# Altium footprint library RAMBo.PcbLib: 56 footprints (part 2 of 4)
Each footprint in its own frame and in the unit in brackets; x right, y up, seen from the top. Pads: shape width x height; smd on the part's side, far side on the other; paste and mask are expansions set on the pad; w line width, h text height; cw(c..) or ccw(c..) is an arc to the next point about the centre after c.
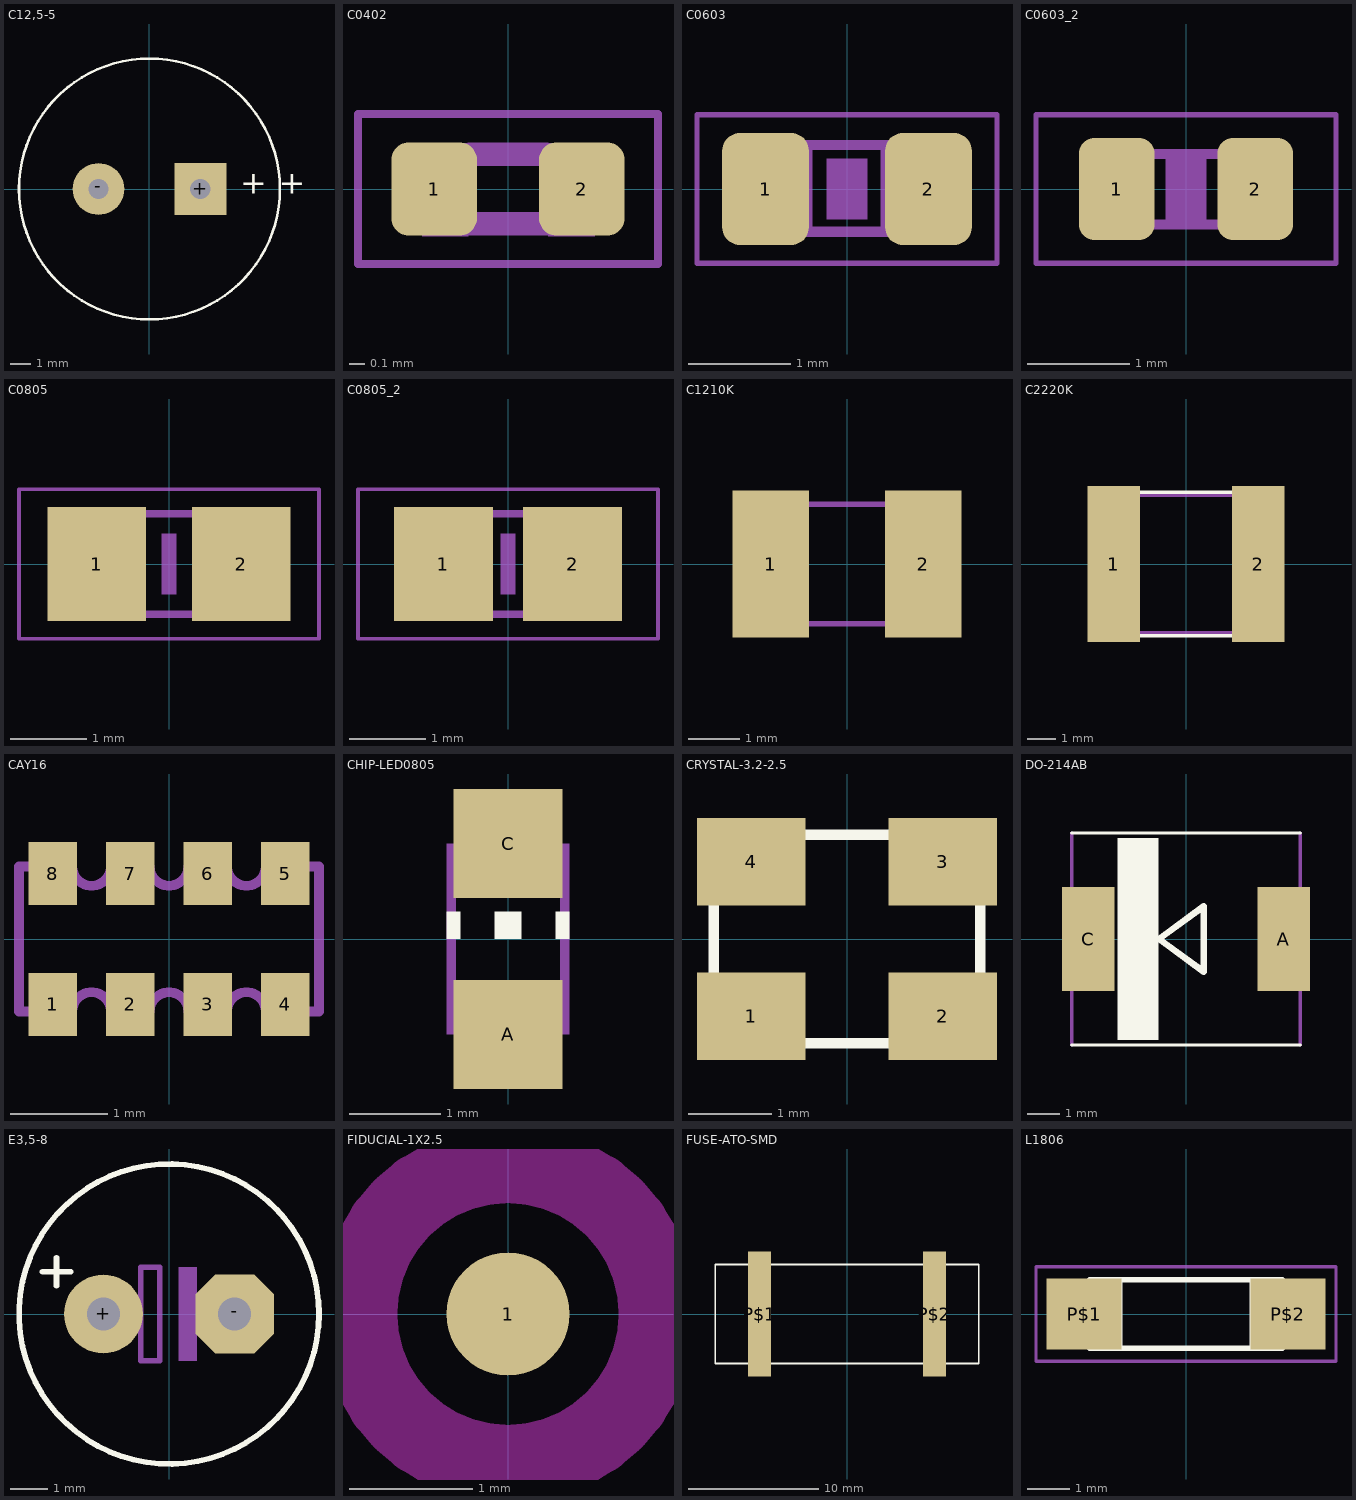
[diagram p1: the footprints below, top view; thin cyan lines are the x and y axes]

## C12,5-5 [mm] "C12,5-5"
pads (2):
  rect 2.54x2.54 hole 1: +(2.5,0)
  round 2.54 hole 1: -(-2.5,0)
Top Overlay:
  circle w0.127: c0,0 r6.4
  text "+" at 4.445,-0.635 h1.97
  text "+" at 6.35,-0.635 h1.97

## C0402 [mil] "C0402"
pads (2):
  rrect40% 21.65x23.62 smd: 1(-18.7,0) 2(18.7,0)
Mechanical 16:
  rectangle: 10.19,-12 22,11.62
  rectangle: -21.81,-12 -10,11.62
  lines w2: -37.99,-19.02 -37.99,19.02 37.99,19.02 37.99,-19.02 -37.99,-19.02
  lines w6: -9.65,-8.82 9.65,-8.82 ; -9.65,8.82 9.65,8.82

## C0603 [mil] "C0603"
pads (2):
  rrect40% 33.46x43.31 smd: 1(-31.5,0) 2(31.5,0)
Mechanical 6:
  rectangle: -7.87,-11.81 7.87,11.81
Mechanical 16:
  rectangle: 13,-18.5 32.69,18.9
  rectangle: -33,-18.5 -13.31,18.9
  lines w2: -57.99,-28.7 -57.99,28.7 57.99,28.7 57.99,-28.7 -57.99,-28.7
  lines w4: -14.02,-16.5 14.02,-16.5 ; -14.02,17.01 14.02,17.01

## C0603_2 [mm]
pads (2):
  rrect40% 0.74x1 smd: 1(-0.68,0) 2(0.68,0)
Mechanical 6:
  rectangle: -0.2,-0.3 0.2,0.3
Mechanical 16:
  rectangle: 0.45,-0.4 0.8,0.4
  rectangle: -0.8,-0.4 -0.45,0.4
  lines w0.051: -1.473,-0.729 -1.473,0.729 1.473,0.729 1.473,-0.729 -1.473,-0.729
  lines w0.102: -0.502,-0.349 0.737,-0.349 ; -0.489,0.343 0.483,0.343

## C0805 [mil] "C0805"
pads (2):
  rect 51.18x59.06 smd: 1(-37.4,0) 2(37.4,0)
Mechanical 6:
  rectangle: -3.94,-15.75 3.94,15.75
Mechanical 16:
  rectangle: 14,-28.5 43.53,28.59
  rectangle: -43,-28.5 -13.47,28.59
  lines w2: -77.68,-38.7 -77.68,38.7 77.68,38.7 77.68,-38.7 -77.68,-38.7
  lines w4: -15,25.98 15,25.98 ; -14.02,-25.98 15,-25.98

## C0805_2 [mil]
pads (2):
  rect 51.18x59.06 smd: 1(-33.46,0) 2(33.46,0)
Mechanical 6:
  rectangle: -3.94,-15.75 3.94,15.75
Mechanical 16:
  rectangle: 14,-28.5 43.53,28.59
  rectangle: -43,-28.5 -13.47,28.59
  lines w2: -77.68,-38.7 -77.68,38.7 77.68,38.7 77.68,-38.7 -77.68,-38.7
  lines w4: -15,25.98 15,25.98 ; -14.02,-25.98 15,-25.98

## C1210K [mil] "C1210K"
pads (2):
  rect 59.06x114.17 smd: 1(-59.06,0) 2(59.06,0)
Mechanical 16:
  rectangle: 43.31,-49.21 62.99,49.21
  rectangle: -62.99,-49.21 -43.31,49.21
  lines w4: -60.04,-46.26 60.04,-46.26 ; -60.04,46.26 60.04,46.26

## C2220K [mil] "C2220K"
pads (2):
  rect 72.83x216.54 smd: 1(-100.39,0) 2(100.39,0)
Top Overlay:
  lines w5: -125,-100 -125,100 125,100 125,-100 -125,-100
Mechanical 16:
  rectangle: 86.61,-98.43 110.24,98.43
  rectangle: -110.24,-98.43 -86.61,98.43
  lines w4: -107.28,-95.47 107.28,-95.47 ; -107.28,95.47 107.28,95.47

## CAY16 [mm] "CAY16"
pads (8):
  rect 0.5x0.65 smd: 1(-1.2,-0.675) 2(-0.4,-0.675) 3(0.4,-0.675) 4(1.2,-0.675) 5(1.2,0.675) 6(0.4,0.675) 7(-0.4,0.675) 8(-1.2,0.675)
Mechanical 16:
  lines w0.102: -1.55,-0.75 -1,-0.75 cw(c-0.8,-0.75) -0.6,-0.75 -0.2,-0.75 cw(c0,-0.75) 0.2,-0.75 0.6,-0.75 cw(c0.8,-0.75) 1,-0.75 1.55,-0.75 1.55,0.75 1,0.75 cw(c0.8,0.75) 0.6,0.75 0.2,0.75 cw(c0,0.75) -0.2,0.75 -0.6,0.75 cw(c-0.8,0.75) -1,0.75 -1.55,0.75 -1.55,-0.75

## CHIP-LED0805 [mil] "CHIP-LED0805"
pads (2):
  rect 47.24x47.24 smd: A(0,-41.34) C(0,41.34)
Top Overlay:
  rectangle: -5.91,0 5.91,11.81
  rectangle: 20.67,0 26.57,11.81
  rectangle: -26.57,0 -20.67,11.81
Mechanical 16:
  rectangle: -26.57,-41.34 26.57,-17.72
  rectangle: -26.57,17.72 26.57,41.34
  lines w4: -24.61,-17.72 -24.61,17.72 ; 24.61,-18.7 24.61,17.72

## CRYSTAL-3.2-2.5 [mil] "CRYSTAL-3.2-2.5"
pads (4):
  rect 51.18x41.34 smd: 1(-45.28,-36.42) 2(45.28,-36.42) 3(45.28,36.42) 4(-45.28,36.42)
Top Overlay:
  lines w5: -62.99,-49.21 -62.99,49.21 62.99,49.21 62.99,-49.21 -62.99,-49.21

## DO-214AB [mm] "DO-214AB"
pads (2):
  rect 1.6x3.2 smd: A(3,0) C(-3,0)
Top Overlay:
  rectangle: -2.1,-3.1 -0.85,3.1
  lines w0.102: -3.5,-3.25 3.5,-3.25 ; -3.5,3.25 3.5,3.25
  lines w0.203: -0.83,0 0.543,-1 0.543,1 -0.83,0
Mechanical 16:
  rectangle: 2.926,-1.092 3.459,1.092
  rectangle: -3.459,-1.092 -2.926,1.092
  lines w0.102: -3.5,-3.25 -3.5,3.25 ; 3.5,-3.25 3.5,3.25

## E3,5-8 [mil] "E3,5-8"
pads (2):
  round 84 hole 35: +(-70,0)
  oct 84x84 hole 35: -(70,0)
Top Overlay:
  circle w6: c0,0 r160
  lines w6: -135,45 -105,45 ; -120,30 -120,60
Mechanical 16:
  rectangle: 10,-50 30,50
  lines w6: -65,0 -30,0 ; 25,0 65,0 ; -30,0 -30,50 -10,50 -10,-50 -30,-50 -30,0

## FIDUCIAL-1X2.5 [mm] "FIDUCIAL-1X2.5"
pads (1):
  rrect100% 1x1 smd: 1(0,0)
Top Layer keep-out:
  circle w0.635: c0,0 r1.217
Top Solder:
  circle w1.27: c0,0 r0.9

## FUSE-ATO-SMD [mil] "FUSE-ATO-SMD"
pads (2):
  rect 70x380 smd: P$1(-265,0) P$2(265,0)
Top Overlay:
  lines w5: -400,-150 400,-150 400,150 -400,150 -400,-150
Top Paste:
  rectangle: -314.96,29.53 -216.54,216.54
  rectangle: 216.54,29.53 314.96,216.54
  rectangle: 216.54,-216.54 314.96,-29.53
  rectangle: -314.96,-216.54 -216.54,-29.53
Top Solder:
  region: 304,-194 304,-46 226,-46 226,-194
  region: 304,46 304,194 226,194 226,46
  region: -226,46 -226,194 -304,194 -304,46
  region: -226,-194 -226,-46 -304,-46 -304,-194

## L1806 [mil] "L1806"
pads (2):
  rect 68.9x64.96 smd: P$1(-93.5,0) P$2(93.5,0)
Top Overlay:
  lines w5: -61.02,-31.5 -61.02,31.5 ; -61.02,-31.5 -88.58,-31.5 -88.58,31.5 -61.02,31.5 ; -61.02,-31.5 61.02,-31.5 ; -61.02,31.5 61.02,31.5 ; 61.02,-31.5 61.02,31.5 ; 61.02,-31.5 88.58,-31.5 88.58,31.5 61.02,31.5
Mechanical 16:
  lines w3: -137.8,-43.31 137.8,-43.31 137.8,43.31 -137.8,43.31 -137.8,-43.31